# Altium schematic symbol library DI_TVS_8PIN.SchLib: 1 symbol
Pins are listed as number, name and electrical type; pins without a type are passive.

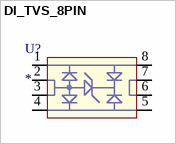
[diagram p0: symbol DI_TVS_8PIN]

## DI_TVS_8PIN
designator U?
pins: 1, 2, 3, 4, 5, 6, 7, 8